# EAGLE library part RJ12-A-2004-1-4-LP-N-R (library openag-connectors)
Assmann WSW Components - A-2004-1-4-LP-N-R - RJ12 CONN MOD JACK 6P6C R/A UNSHLD Description: Jack Modular Connector 6p6c (RJ11, RJ12, RJ14, RJ25) 90° Angle (Right) Unshielded Technical Specifications: Connector Type: Jack Number of Positions/Contacts: 6p6c (RJ11, RJ12, RJ14, RJ25) Number of Ports: 1 Number of Rows: 1 Mounting Type: Through Hole Orientation: 90° Angle (Right) Termination: Solder Shielding: Unshielded Features: Board Lock LED Color: Does Not Contain LED Tab Direction: Down Contact Material: Phosphor Bronze Contact Finish: Gold Contact Finish Thickness: 6µin (0.152µm) Housing Material: Polybutylene Terephthalate (PBT), Glass Filled Operating Temperature: -40°C ~ 85°C Datasheet(s): A-2004-1-4-LP-N Drawing <http://www.assmann-wsw.com/fileadmin/datasheets/ASS_7320_CO.pdf> Vendor(s): Digikey: AE10383-ND <https://www.digikey.com/product-detail/en/assmann-wsw-components/A-2004-1-4-LP-N-R/AE10383-ND/2183634>
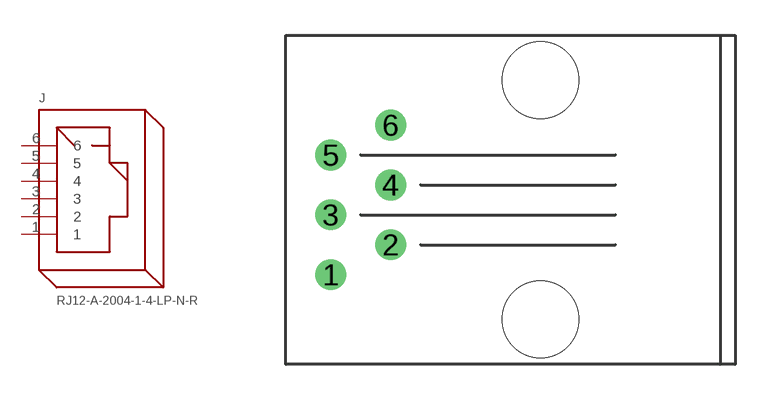
[diagram p0: symbol with the pads of RJ12-A-2004-1-4-LP-N-R; footprint RJ12-A-2004-1-4-LP-N-R]

Designator prefix J

## RJ12-A-2004-1-4-LP-N-R (POPULATE: YES; VALUE: A-2004-1-4-LP-N-R; VERIFIED: NO)  [RJ12-A-2004-1-4-LP-N-R]
1  1
2  2
3  3
4  4
5  5
6  6

## Footprint RJ12-A-2004-1-4-LP-N-R (pad centres in mm)
RJ12, RJ14, RJ25 RJ12, RJ14 and RJ22 jacks side mounted http://www.tycoelectronics.com
drill 0.8: 1 -8.89,-3.175; 2 -6.35,-1.905; 3 -8.89,-0.635; 4 -6.35,0.635; 5 -8.89,1.905; 6 -6.35,3.175
hole 3.25 at 0,-5.08
hole 3.25 at 0,5.08